# EAGLE library part TPS22918 (library mille-feuille)
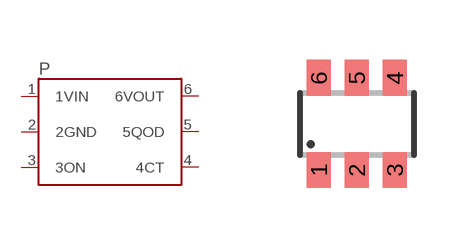
[diagram p17: symbol with the pads of SOT23-6; footprint SOT23-6]

Designator prefix P

## TPS22918  [SOT23-6]
1  1VIN
2  2GND
3  3ON
4  4CT
5  5QOD
6  6VOUT

## Footprint SOT23-6 (pad centres in mm)
smd 0.6 x 0.9: 1 -0.95,-1.15; 2 0,-1.15; 3 0.95,-1.15; 4 0.95,1.15; 5 0,1.15; 6 -0.95,1.15